# EAGLE library part XILINX_HDR_2MM (library xess)
XILINX JTAG Header (2MM) 2MM header for connecting to JTAG port of Xilinx FPGAs.
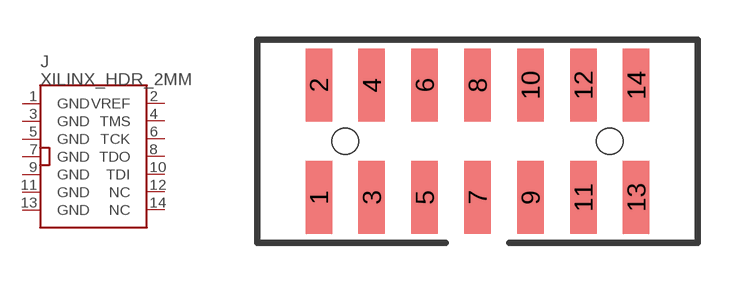
[diagram p94: symbol with the pads of MOLEX-87832-142X; footprint MOLEX-87832-142X]

Designator prefix J

## XILINX_HDR_2MM  [MOLEX-87832-142X]
1  GND  pas
2  VREF  pas
3  GND  pas
4  TMS  in
5  GND  pas
6  TCK  in
7  GND  pas
8  TDO  out
9  GND  pas
10  TDI  in
11  GND  pas
12  NC  nc
13  GND  pas
14  NC  nc

## Footprint MOLEX-87832-142X (pad centres in mm)
smd 1 x 2.75: 1 -6,-2.125; 2 -6,2.125; 3 -4,-2.125; 4 -4,2.125; 5 -2,-2.125; 6 -2,2.125; 7 0,-2.125; 8 0,2.125; 9 2,-2.125; 10 2,2.125; 11 4,-2.125; 12 4,2.125; 13 6,-2.125; 14 6,2.125
hole 1 at -5,0
hole 1 at 5,0